# Altium integrated library RELAY.IntLib: 9 symbols
Pins are listed as number, name and electrical type; pins without a type are passive.

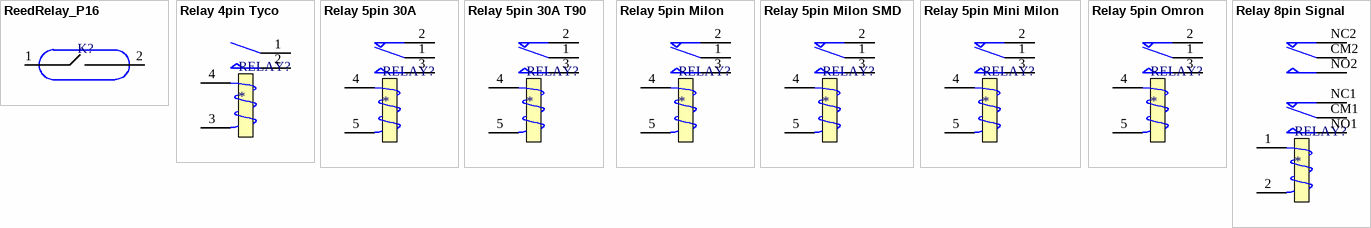
[diagram p0: symbols ReedRelay_P16 to Relay 8pin Signal]

## ReedRelay_P16
designator K?
footprint REL_REED_RELAY_P16
pins: 1, 2

## Relay 4pin Tyco
designator RELAY?
footprint REL_TYCO_4PIN
pins: 1 COM, 2 NO, 3 T2, 4 T1

## Relay 5pin 30A
designator RELAY?
footprint REL_30A
pins: 1 COM, 2 NC, 3 NO, 4 T1, 5 T2

## Relay 5pin 30A T90
designator RELAY?
footprint REL_30A_T90
pins: 1 COM, 2 NC, 3 NO, 4 T1, 5 T2

## Relay 5pin Milon
designator RELAY?
footprint REL_MILON
pins: 1 COM, 2 NC, 3 NO, 4 T1, 5 T2

## Relay 5pin Milon SMD
designator RELAY?
footprint REL_MILON_SMD
pins: 1 COM, 2 NC, 3 NO, 4 T1, 5 T2

## Relay 5pin Mini Milon
designator RELAY?
footprint REL_MILON_MINI
pins: 1 COM, 2 NC, 3 NO, 4 T1, 5 T2

## Relay 5pin Omron
designator RELAY?
footprint REL_OMRON_5PIN
pins: 1 COM, 2 NC, 3 NO, 4 T1, 5 T2

## Relay 8pin Signal
designator RELAY?
footprint REL_SIGNAL
pins: 1 T1, 2 T2, CM1 COM, CM2 COM, NC1 NC, NC2 NC, NO1 NO, NO2 NO